# Altium footprint library HBlib.PcbLib: 24 footprints (part 2 of 2)
Each footprint in its own frame and in the unit in brackets; x right, y up, seen from the top. Pads: shape width x height; smd on the part's side, far side on the other; paste and mask are expansions set on the pad; w line width, h text height; cw(c..) or ccw(c..) is an arc to the next point about the centre after c.
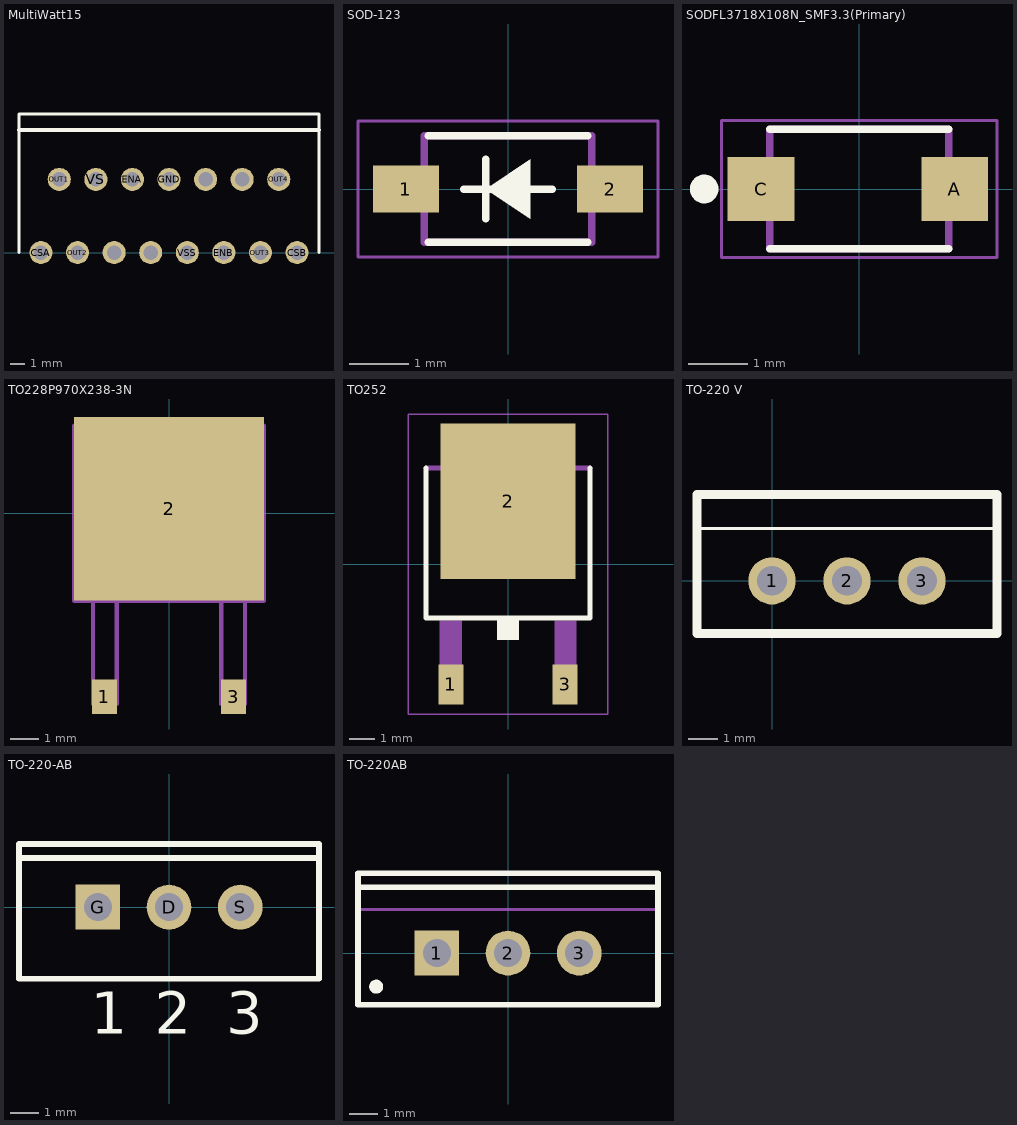
[diagram p1: the footprints below, top view; thin cyan lines are the x and y axes]

## MultiWatt15 [mm] "MultiWatt15; 15 Leads; Row Spacing 5.08 mm; Pitch 2.54 mm"
height 5.08
pads (15):
  round 1.6 hole 1: CSA(4.064,0) CSB(21.844,0) ENA(10.414,5.08) ENB(16.764,0) GND(12.954,5.08) input1(9.144,0) input2(11.684,0) input3(15.494,5.08) input4(18.034,5.08) OUT1(5.334,5.08) OUT2(6.604,0) OUT3(19.304,0) OUT4(20.574,5.08) VS(7.874,5.08) VSS(14.224,0)
Top Overlay:
  lines w0.2: 2.54,0 2.54,9.627 23.368,9.627 23.368,0
  lines w0.254: 2.54,8.509 23.368,8.509

## SOD-123 [mm]
pads (2):
  rect 1.12x0.8 smd: 1(-1.73,0) 2(1.73,0)
Top Overlay:
  region: -0.375,0 0.375,0.5 0.375,-0.5
  lines w0.127: -1.35,-0.9 1.35,-0.9 ; -1.35,0.9 1.35,0.9 ; -0.75,0 0.75,0 ; -0.375,-0.5 -0.375,0.5
Mechanical 4:
  lines w0.127: -1.42,-0.9 -1.42,0.9 ; -1.42,-0.9 1.42,-0.9 ; -1.42,-0.9 -1.42,0.9 ; -1.42,-0.9 1.42,-0.9 ; -1.42,0.9 1.42,0.9 ; -1.42,0.9 1.42,0.9 ; 1.42,-0.9 1.42,0.9 ; 1.42,-0.9 1.42,0.9
Mechanical 16:
  lines w0.05: -2.54,-1.15 2.54,-1.15 2.54,1.15 -2.54,1.15 -2.54,-1.15

## SODFL3718X108N_SMF3.3(Primary) [mm]
pads (2):
  rect 1.12x1.08 smd: A(1.6,0) C(-1.645,0)
Top Overlay:
  circle w0.24: c-2.6,0 r0.12
  lines w0.127: -1.5,-1 1.5,-1 ; -1.5,1 1.5,1
Mechanical 4:
  lines w0.127: -1.5,-1 -1.5,1 ; -1.5,-1 1.5,-1 ; -1.5,-1 -1.5,1 ; -1.5,-1 1.5,-1 ; -1.5,1 1.5,1 ; -1.5,1 1.5,1 ; 1.5,-1 1.5,1 ; 1.5,-1 1.5,1
Mechanical 16:
  lines w0.05: -2.31,-1.15 -2.31,1.15 2.31,1.15 2.31,-1.15 -2.31,-1.15

## TO228P970X238-3N [mil]
pads (3):
  rect 35x48 smd: 1(-90,-256) 3(90,-256)
  rect 265x256 smd: 2(0,6)
Mechanical 4:
  lines w6: -132,-122 132,-122 ; -132,-122 -132,122 ; -132,-122 132,-122 ; -132,-122 -132,122 ; -132,122 132,122 ; -132,122 132,122 ; -106,-266 -106,-122 ; -106,-266 -73,-266 ; -106,-266 -106,-122 ; -106,-266 -73,-266 ; -106,-122 -73,-122 ; -106,-122 -73,-122 ; -73,-266 -73,-122 ; -73,-266 -73,-122 ; 73,-266 73,-122 ; 73,-266 106,-266 ; 73,-266 73,-122 ; 73,-266 106,-266 ; 73,-122 106,-122 ; 73,-122 106,-122 ; 106,-266 106,-122 ; 106,-266 106,-122 ; 132,-122 132,122 ; 132,-122 132,122

## TO252 [mm]
pads (3):
  rect 1x1.6 smd: 1(-2.28,-4.8) 3(2.28,-4.8)
  rect 5.4x6.2 smd: 2(0,2.5)
Top Overlay:
  region: -0.432,-2.261 0.432,-2.261 0.432,-3.025 -0.432,-3.025
  lines w0.203: -3.277,3.835 -3.277,-2.159 3.277,-2.159 3.277,3.835
Mechanical 4:
  region: -2.565,3.937 -2.565,4.648 -2.108,5.105 2.108,5.105 2.565,4.648 2.565,3.937
  region: 1.858,-2.261 2.718,-2.261 2.718,-5.166 1.858,-5.166
  region: -2.719,-2.261 -1.854,-2.261 -1.854,-5.159 -2.719,-5.159
  region: -2.565,3.937 -2.565,4.648 -2.108,5.105 2.108,5.105 2.565,4.648 2.565,3.937
  region: 1.858,-2.261 2.718,-2.261 2.718,-5.166 1.858,-5.166
  region: -2.719,-2.261 -1.854,-2.261 -1.854,-5.159 -2.719,-5.159
  lines w0.203: -2.565,3.937 2.565,3.937 ; -2.565,3.937 -2.565,4.648 ; -2.565,3.937 2.565,3.937 ; -2.565,3.937 -2.565,4.648 ; -2.565,4.648 -2.108,5.105 ; -2.565,4.648 -2.108,5.105 ; -2.108,5.105 2.108,5.105 ; -2.108,5.105 2.108,5.105 ; 2.108,5.105 2.565,4.648 ; 2.108,5.105 2.565,4.648 ; 2.565,3.937 2.565,4.648 ; 2.565,3.937 2.565,4.648 ; -3.277,3.835 3.277,3.835 -3.277,3.835
Mechanical 16:
  lines w0.051: -3.973,-5.983 -3.973,5.983 3.973,5.983 3.973,-5.983 -3.973,-5.983

## TO-220 V [mm] "TO-220 Vertical"
height 20
pads (3):
  round 1.6 hole 1: 1(0,0) 2(2.54,0) 3(5.08,0)
Top Overlay:
  lines w0.102: -2.54,1.778 7.62,1.778
  lines w0.305: -2.54,-1.778 7.62,-1.778 7.62,1.778 7.62,2.921 -2.54,2.921 -2.54,1.778 -2.54,-1.778

## TO-220-AB [mm] "TO, Thru-Hole, Vertical, Heatsink Mounted; 3 In-Line Leads; Pitch 2.54 mm"
height 19.1
pads (3):
  round 1.6 hole 1: D(0,0) S(2.54,0)
  rect 1.6x1.6 hole 1: G(-2.54,0)
Top Overlay:
  lines w0.2: -5.35,1.75 5.35,1.75 ; -5.35,-2.55 5.35,-2.55 5.35,2.25 -5.35,2.25 -5.35,-2.55
  text "1" at -2.79,-4.525 h1.5
  text "2" at -0.5,-4.525 h1.5
  text "3" at 2.04,-4.525 h1.5

## TO-220AB [mm] "TO, Thru-Hole, Vertical, Heatsink Mounted; 3 In-Line Leads; Pitch 2.54 mm"
height 19.3
pads (3):
  rect 1.6x1.6 hole 1: 1(-2.54,0)
  round 1.6 hole 1: 2(0,0) 3(2.54,0)
Top Overlay:
  circle w0.25: c-4.7,-1.2 r0.125
  lines w0.2: -5.35,2.35 5.35,2.35 ; -5.35,-1.85 -5.35,2.85 5.35,2.85 5.35,-1.85 -5.35,-1.85
Mechanical 13:
  lines w0.1: -5.35,1.55 5.35,1.55 ; -5.35,-1.85 5.35,-1.85 5.35,2.85 -5.35,2.85 -5.35,-1.85
Mechanical 15:
  lines w0.1: -0.5,0 0.5,0 ; 0,-0.5 0,0.5
3D body: height 12.9, standoff 4, extent -5.4,-1.9 5.4,2.9
3D body: height 19.3, standoff 12.9, extent -5.349,1.551 5.349,2.849